# Altium footprint library util.PcbLib: 3 footprints
Each footprint in its own frame and in the unit in brackets; x right, y up, seen from the top. Pads: shape width x height; smd on the part's side, far side on the other; paste and mask are expansions set on the pad; w line width, h text height; cw(c..) or ccw(c..) is an arc to the next point about the centre after c.
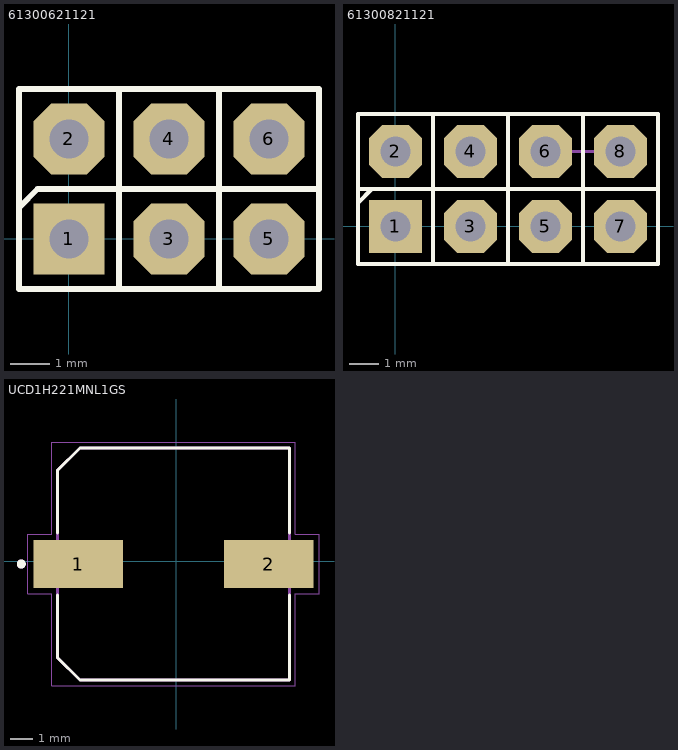
[diagram p0: the footprints below, top view; thin cyan lines are the x and y axes]

## 61300621121 [mm]
pads (6):
  rect 1.8x1.8 hole 1: 1(0,0)
  oct 1.8x1.8 hole 1: 2(0,2.54) 3(2.54,0) 4(2.54,2.54) 5(5.08,0) 6(5.08,2.54)
Top Overlay:
  lines w0.15: -1.27,0.762 -1.27,3.81 6.35,3.81 6.35,1.27 ; -1.27,1.27 -1.27,-1.27 6.35,-1.27 ; -1.255,0.815 -0.8,1.27 ; -0.762,1.27 1.778,1.27 ; 1.27,-1.27 1.27,1.27 1.27,3.81 ; 1.397,1.27 3.937,1.27 ; 3.81,3.81 3.81,1.27 ; 3.81,1.27 6.35,1.27 ; 3.81,1.27 3.81,-1.27 6.35,-1.27 ; 6.35,-1.27 6.35,1.27
Mechanical 15:
  lines w0.1: 6.35,2.04 6.35,3.04
3D body "61300621121_Download_STP_61300621121_rev1.stp": height 8.57, standoff -2.97, extent -1.27,-1.27 6.35,3.81

## 61300821121 [mm]
pads (8):
  rect 1.8x1.8 hole 1: 1(0,0)
  oct 1.8x1.8 hole 1: 2(0,2.54) 3(2.54,0) 4(2.54,2.54) 5(5.08,0) 6(5.08,2.54) 7(7.62,0) 8(7.62,2.54)
Top Overlay:
  lines w0.15: -1.255,0.815 -0.8,1.27 ; 1.27,-1.27 1.27,1.27 1.27,3.81 ; 3.81,3.81 3.81,1.27 ; 6.35,3.81 6.35,1.27 ; -1.27,1.27 8.89,1.27 ; -1.27,1.27 -1.27,-1.27 8.89,-1.27 8.89,1.27 ; -1.27,1.27 8.89,1.27 ; -1.27,1.27 -1.27,3.81 8.89,3.81 8.89,1.27 ; 3.81,1.27 3.81,-1.27 6.35,-1.27 6.35,1.27 ; 3.81,1.27 6.35,1.27
Mechanical 15:
  lines w0.1: 5.85,2.54 6.85,2.54 ; 6.35,2.04 6.35,3.04
3D body "61300821121_Download_STP_61300821121_rev1.stp": height 9.37, standoff -2.17, extent -1.27,-1.27 8.89,3.81

## UCD1H221MNL1GS [mm]
pads (2):
  rect 3.96x2.12 smd: 1(-4.352,-0.127) 2(4.098,-0.127)
Top Overlay:
  circle w0.2: c-6.877,-0.127 r0.1
  lines w0.127: -5.277,-1.5 -5.277,-4.277 -4.277,-5.277 5.023,-5.277 5.023,-1.5 ; -5.277,1.246 -5.277,4.023 -4.277,5.023 5.023,5.023 5.023,1.246
Mechanical 13:
  circle w0.2: c-6.877,-0.127 r0.1
  lines w0.127: -5.277,-4.277 -4.277,-5.277 5.023,-5.277 5.023,5.023 -4.277,5.023 -5.277,4.023 -5.277,-4.277
Mechanical 15:
  lines w0.05: -6.582,-1.437 -5.527,-1.437 -5.527,-5.527 5.273,-5.527 5.273,-1.437 6.328,-1.437 6.328,1.183 5.273,1.183 5.273,5.273 -5.527,5.273 -5.527,1.183 -6.582,1.183 -6.582,-1.437
3D body "PCAP_8x10-ELECT_NCA.step": height 10.34, standoff 0, extent -4.648,-4.508 4.648,4